# Altium footprint library Pcb Footprints.PcbLib: 8 footprints
Each footprint in its own frame and in the unit in brackets; x right, y up, seen from the top. Pads: shape width x height; smd on the part's side, far side on the other; paste and mask are expansions set on the pad; w line width, h text height; cw(c..) or ccw(c..) is an arc to the next point about the centre after c.
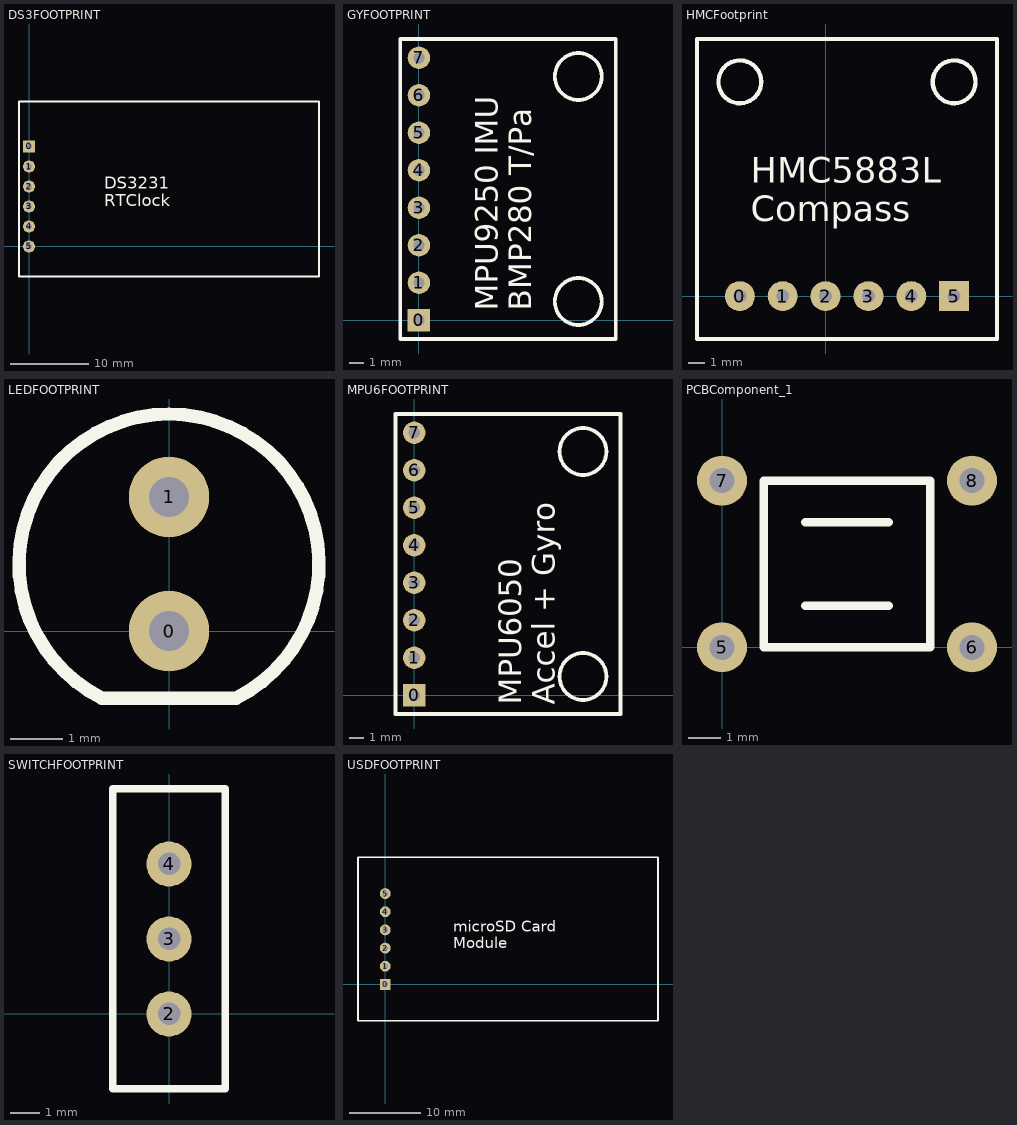
[diagram p0: the footprints below, top view; thin cyan lines are the x and y axes]

## DS3FOOTPRINT [mil] "DS3231"
pads (6):
  rect 60x60 hole 30: 0(0,500)
  round 60 hole 30: 1(0,400) 2(0,300) 3(0,200) 4(0,100) 5(0,0)
Top Overlay:
  lines w10: -50,-150 1450,-150 1450,725 -50,725 -50,-150
  text "DS3231 / RTClock" at 375,200 h60
3D body: height 440, standoff 0, extent -50,-50 50,550
3D body: height 500, standoff 440, extent -50,-150 1450,725

## GYFOOTPRINT [mil]
pads (8):
  rect 60x60 hole 30: 0(0,0)
  round 60 hole 30: 1(0,100) 2(0,200) 3(0,300) 4(0,400) 5(0,500) 6(0,600) 7(0,700)
Top Overlay:
  circle w10: c425,50 r62.5
  circle w10: c425,650 r62.5
  lines w10: -50,-50 525,-50 525,750 -50,750 -50,-50
  text "MPU9250 IMU / BMP280 T/Pa" at 300,25 h60
3D body: height 100, standoff 0, extent -50,-50 50,750
3D body: height 220, standoff 100, extent -50,-50 525,750

## HMCFootprint [mil]
pads (6):
  round 70 hole 30: 0(-200,0) 1(-100,0) 2(0,0) 3(100,0) 4(200,0)
  rect 70x70 hole 30: 5(300,0)
Top Overlay:
  circle w10: c-200,500 r50
  circle w10: c300,500 r50
  lines w10: -300,-100 -300,600 400,600 400,-100 -300,-100
  text "HMC5883L / Compass" at -175,175 h60
3D body: height 220, standoff 100, extent -300,-100 400,600
3D body: height 100, standoff 0, extent -250,-50 350,50

## LEDFOOTPRINT [mil]
pads (2):
  round 60 hole 30: 0(0,0) 1(0,100)
Top Overlay:
  lines w10: -50,-50 cw(c0,50) 50,-50 -50,-50
3D body: height 300, standoff 0, extent -99.99,-49.96 100.01,149.97

## MPU6FOOTPRINT [mil]
pads (8):
  rect 60x60 hole 30: 0(0,0)
  round 60 hole 30: 1(0,100) 2(0,200) 3(0,300) 4(0,400) 5(0,500) 6(0,600) 7(0,700)
Top Overlay:
  circle w10: c450,50 r62.5
  circle w10: c450,650 r62.5
  lines w10: -50,-50 550,-50 550,750 -50,750 -50,-50
  text "MPU6050 / Accel + Gyro" at 375,-25 h60
3D body: height 100, standoff 0, extent -50,-50 50,750
3D body: height 220, standoff 100, extent -50,-50 550,750

## PCBComponent_1 [mil]
pads (4):
  round 60 hole 30: 5(0,0) 6(300,0) 7(0,200) 8(300,200)
Top Overlay:
  lines w10: 100,50 200,50 ; 100,150 200,150 ; 50,0 50,200 250,200 250,0 50,0
3D body: height 300, standoff 100, extent 100,50.03 200,149.97
3D body: height 100, standoff 0, extent 50,0 250,200

## SWITCHFOOTPRINT [mil]
pads (3):
  round 60 hole 30: 2(0,0) 3(0,100) 4(0,200)
Top Overlay:
  lines w10: -75,-100 75,-100 75,300 -75,300 -75,-100
3D body: height 150, standoff 0, extent -75,-100 75,300
3D body: height 300, standoff 150, extent -25,150 25,200

## USDFOOTPRINT [mil]
pads (6):
  rect 60x60 hole 30: 0(0,0)
  round 60 hole 30: 1(0,100) 2(0,200) 3(0,300) 4(0,400) 5(0,500)
Top Overlay:
  lines w10: -150,-200 -150,700 1500,700 1500,-200 -150,-200
  text "microSD Card / Module" at 375,200 h60
3D body: height 220, standoff 100, extent -150,-200 1500,700
3D body: height 100, standoff 0, extent -50,-50 50,550